# Altium integrated library Altium_WCAP-FTBP (rev22a).IntLib: 30 symbols
Pins are listed as number, name and electrical type; pins without a type are passive.

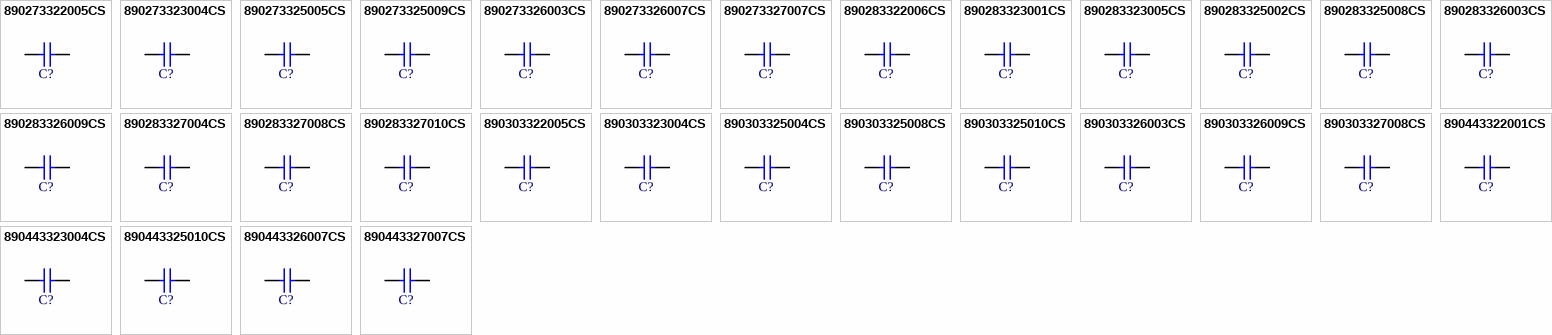
[diagram p0: symbols 890273322005CS to 890443327007CS]

## 890273322005CS
designator C?, comment 150nF  (value not drawn)
WCAP-FTBP Film Capacitor, THT, L10.5W5H11mm, 150nF, 250V; Manufacturer: Wurth Elektronik; Manufacturer Part Number: 890273322005CS; Capacitance Tolerance: +/-5%; Dissipation Factor @1kHz: 0.1%; Dissipation Factor @100kHz: 0.26%; Insulation Resistance: 30000MOhm; Pitch: 7.5mm; Rate of Voltage Rise: 340V/us; Technical Reference: MPPP075154J250DCPP45004; ComponentLink1Description: Manufacturer Link; ComponentLink1URL: https://www.we-online.com/redexpert/article/890273322005CS?ad; ComponentLink2Description: Datasheet; ComponentLink2URL: https://www.we-online.com/redexpert/spec/890273322005CS?ad; Category: Film Capacitors; Match Code: WCAP-FTBP; Mount: Through Hole; Operating Temperature Max: 105°C; Operating Temperature Min: -40°C; Packaging: Carton; Length: 10.5mm; Width: 5mm; Height: 11mm; Capacitance: 150nF; Dissipation Factor @10kHz: 0.1%; Rated Voltage (DC): 250V
footprint WCAP-FTBP_L10.5W5H11
pins: 1, 2

## 890273323004CS
designator C?, comment 220nF  (value not drawn)
WCAP-FTBP Film Capacitor, THT, L13W6H12mm, 220nF, 250V; Manufacturer: Wurth Elektronik; Manufacturer Part Number: 890273323004CS; Capacitance Tolerance: +/-5%; Dissipation Factor @1kHz: 0.1%; Dissipation Factor @100kHz: 0.4%; Insulation Resistance: 30000MOhm; Pitch: 10mm; Rate of Voltage Rise: 250V/us; Technical Reference: MPPP010224J250DCPP45004; ComponentLink1Description: Manufacturer Link; ComponentLink1URL: https://www.we-online.com/redexpert/article/890273323004CS?ad; ComponentLink2Description: Datasheet; ComponentLink2URL: https://www.we-online.com/redexpert/spec/890273323004CS?ad; Category: Film Capacitors; Match Code: WCAP-FTBP; Mount: Through Hole; Operating Temperature Max: 105°C; Operating Temperature Min: -40°C; Packaging: Carton; Length: 13mm; Width: 6mm; Height: 12mm; Capacitance: 220nF; Dissipation Factor @10kHz: 0.1%; Rated Voltage (DC): 250V
footprint WCAP-FTBP_L13W6H12
pins: 1, 2

## 890273325005CS
designator C?, comment 470nF  (value not drawn)
WCAP-FTBP Film Capacitor, THT, L18W5H11mm, 470nF, 250V; Manufacturer: Wurth Elektronik; Manufacturer Part Number: 890273325005CS; Capacitance Tolerance: +/-5%; Dissipation Factor @1kHz: 0.1%; Dissipation Factor @10kHz: 0.28%; Dissipation Factor @100kHz: 1.5%; Insulation Resistance: 10000Ohm x F; Pitch: 15mm; Rate of Voltage Rise: 59V/us; Technical Reference: MPPP015474J250DCPP45004; ComponentLink1Description: Manufacturer Link; ComponentLink1URL: https://www.we-online.com/redexpert/article/890273325005CS?ad; ComponentLink2Description: Datasheet; ComponentLink2URL: https://www.we-online.com/redexpert/spec/890273325005CS?ad; Category: Film Capacitors; Match Code: WCAP-FTBP; Mount: Through Hole; Operating Temperature Max: 105°C; Operating Temperature Min: -40°C; Packaging: Carton; Length: 18mm; Width: 5mm; Height: 11mm; Capacitance: 470nF; Rated Voltage (DC): 250V
footprint WCAP-FTBP_L18W5H11
pins: 1, 2

## 890273325009CS
designator C?, comment 1uF  (value not drawn)
WCAP-FTBP Film Capacitor, THT, L18W7H13mm, 1uF, 250V; Manufacturer: Wurth Elektronik; Manufacturer Part Number: 890273325009CS; Capacitance Tolerance: +/-5%; Dissipation Factor @1kHz: 0.1%; Dissipation Factor @10kHz: 0.28%; Dissipation Factor @100kHz: 1.5%; Insulation Resistance: 10000Ohm x F; Pitch: 15mm; Rate of Voltage Rise: 85V/us; Technical Reference: MPPP015105J250DCPP45004; ComponentLink1Description: Manufacturer Link; ComponentLink1URL: https://www.we-online.com/redexpert/article/890273325009CS?ad; ComponentLink2Description: Datasheet; ComponentLink2URL: https://www.we-online.com/redexpert/spec/890273325009CS?ad; Category: Film Capacitors; Match Code: WCAP-FTBP; Mount: Through Hole; Operating Temperature Max: 105°C; Operating Temperature Min: -40°C; Packaging: Carton; Length: 18mm; Width: 7mm; Height: 13mm; Capacitance: 1uF; Rated Voltage (DC): 250V
footprint WCAP-FTBP_L18W7H13
pins: 1, 2

## 890273326003CS
designator C?, comment 680nF  (value not drawn)
WCAP-FTBP Film Capacitor, THT, L26W6H15mm, 680nF, 250V; Manufacturer: Wurth Elektronik; Manufacturer Part Number: 890273326003CS; Capacitance Tolerance: +/-5%; Dissipation Factor @1kHz: 0.1%; Dissipation Factor @10kHz: 0.36%; Dissipation Factor @100kHz: 3.1%; Insulation Resistance: 10000Ohm x F; Pitch: 22.5mm; Rate of Voltage Rise: 60V/us; Technical Reference: MPPP225684J250DCPP45004; ComponentLink1Description: Manufacturer Link; ComponentLink1URL: https://www.we-online.com/redexpert/article/890273326003CS?ad; ComponentLink2Description: Datasheet; ComponentLink2URL: https://www.we-online.com/redexpert/spec/890273326003CS?ad; Category: Film Capacitors; Match Code: WCAP-FTBP; Mount: Through Hole; Operating Temperature Max: 105°C; Operating Temperature Min: -40°C; Packaging: Carton; Length: 26mm; Width: 6mm; Height: 15mm; Capacitance: 680nF; Rated Voltage (DC): 250V
footprint WCAP-FTBP_L26W6H15
pins: 1, 2

## 890273326007CS
designator C?, comment 1.5uF  (value not drawn)
WCAP-FTBP Film Capacitor, THT, L26W7H16.5mm, 1.5uF, 250V; Manufacturer: Wurth Elektronik; Manufacturer Part Number: 890273326007CS; Capacitance Tolerance: +/-5%; Dissipation Factor @1kHz: 0.1%; Dissipation Factor @10kHz: 0.4%; Dissipation Factor @100kHz: 3.4%; Insulation Resistance: 10000Ohm x F; Pitch: 22.5mm; Rate of Voltage Rise: 61V/us; Technical Reference: MPPP225155J250DCPP35004; ComponentLink1Description: Manufacturer Link; ComponentLink1URL: https://www.we-online.com/redexpert/article/890273326007CS?ad; ComponentLink2Description: Datasheet; ComponentLink2URL: https://www.we-online.com/redexpert/spec/890273326007CS?ad; Category: Film Capacitors; Match Code: WCAP-FTBP; Mount: Through Hole; Operating Temperature Max: 105°C; Operating Temperature Min: -40°C; Packaging: Carton; Length: 26mm; Width: 7mm; Height: 16.5mm; Capacitance: 1.5uF; Rated Voltage (DC): 250V
footprint WCAP-FTBP_L26W7H16.5
pins: 1, 2

## 890273327007CS
designator C?, comment 4.7uF  (value not drawn)
WCAP-FTBP Film Capacitor, THT, L31W14H23.5mm, 4.7uF, 250V; Manufacturer: Wurth Elektronik; Manufacturer Part Number: 890273327007CS; Capacitance Tolerance: +/-5%; Dissipation Factor @1kHz: 0.1%; Dissipation Factor @10kHz: 0.57%; Dissipation Factor @100kHz: 4.6%; Insulation Resistance: 10000Ohm x F; Pitch: 27.5mm; Rate of Voltage Rise: 64V/us; Technical Reference: MPPP275475J250DCPP35004; ComponentLink1Description: Manufacturer Link; ComponentLink1URL: https://www.we-online.com/redexpert/article/890273327007CS?ad; ComponentLink2Description: Datasheet; ComponentLink2URL: https://www.we-online.com/redexpert/spec/890273327007CS?ad; Category: Film Capacitors; Match Code: WCAP-FTBP; Mount: Through Hole; Operating Temperature Max: 105°C; Operating Temperature Min: -40°C; Packaging: Carton; Length: 31mm; Width: 14mm; Height: 23.5mm; Capacitance: 4.7uF; Rated Voltage (DC): 250V
footprint WCAP-FTBP_L31W14H23.5
pins: 1, 2

## 890283322006CS
designator C?, comment 68nF  (value not drawn)
WCAP-FTBP Film Capacitor, THT, L10.5W6H12mm, 68nF, 400V; Manufacturer: Wurth Elektronik; Manufacturer Part Number: 890283322006CS; Capacitance Tolerance: +/-5%; Dissipation Factor @1kHz: 0.1%; Dissipation Factor @100kHz: 0.15%; Insulation Resistance: 30000MOhm; Pitch: 7.5mm; Rate of Voltage Rise: 610V/us; Technical Reference: MPPP075683J400DCPP45004; ComponentLink1Description: Manufacturer Link; ComponentLink1URL: https://www.we-online.com/redexpert/article/890283322006CS?ad; ComponentLink2Description: Datasheet; ComponentLink2URL: https://www.we-online.com/redexpert/spec/890283322006CS?ad; Category: Film Capacitors; Match Code: WCAP-FTBP; Mount: Through Hole; Operating Temperature Max: 105°C; Operating Temperature Min: -40°C; Packaging: Carton; Length: 10.5mm; Width: 6mm; Height: 12mm; Capacitance: 68nF; Dissipation Factor @10kHz: 0.1%; Rated Voltage (DC): 400V
footprint WCAP-FTBP_L10.5W6H12
pins: 1, 2

## 890283323001CS
designator C?, comment 47nF  (value not drawn)
WCAP-FTBP Film Capacitor, THT, L13W5H11mm, 47nF, 400V; Manufacturer: Wurth Elektronik; Manufacturer Part Number: 890283323001CS; Capacitance Tolerance: +/-5%; Dissipation Factor @1kHz: 0.1%; Dissipation Factor @100kHz: 0.31%; Insulation Resistance: 30000MOhm; Pitch: 10mm; Rate of Voltage Rise: 340V/us; Technical Reference: MPPP010473J400DCPP55004; ComponentLink1Description: Manufacturer Link; ComponentLink1URL: https://www.we-online.com/redexpert/article/890283323001CS?ad; ComponentLink2Description: Datasheet; ComponentLink2URL: https://www.we-online.com/redexpert/spec/890283323001CS?ad; Category: Film Capacitors; Match Code: WCAP-FTBP; Mount: Through Hole; Operating Temperature Max: 105°C; Operating Temperature Min: -40°C; Packaging: Carton; Length: 13mm; Width: 5mm; Height: 11mm; Capacitance: 47nF; Dissipation Factor @10kHz: 0.1%; Rated Voltage (DC): 400V
footprint WCAP-FTBP_L13W5H11
pins: 1, 2

## 890283323005CS
designator C?, comment 100nF  (value not drawn)
WCAP-FTBP Film Capacitor, THT, L13W5.5H11mm, 100nF, 400V; Manufacturer: Wurth Elektronik; Manufacturer Part Number: 890283323005CS; Capacitance Tolerance: +/-5%; Dissipation Factor @1kHz: 0.1%; Dissipation Factor @100kHz: 0.35%; Insulation Resistance: 30000MOhm; Pitch: 10mm; Rate of Voltage Rise: 300V/us; Technical Reference: MPPP010104J400DCPP55004; ComponentLink1Description: Manufacturer Link; ComponentLink1URL: https://www.we-online.com/redexpert/article/890283323005CS?ad; ComponentLink2Description: Datasheet; ComponentLink2URL: https://www.we-online.com/redexpert/spec/890283323005CS?ad; Category: Film Capacitors; Match Code: WCAP-FTBP; Mount: Through Hole; Operating Temperature Max: 105°C; Operating Temperature Min: -40°C; Packaging: Carton; Length: 13mm; Width: 5.5mm; Height: 11mm; Capacitance: 100nF; Dissipation Factor @10kHz: 0.1%; Rated Voltage (DC): 400V
footprint WCAP-FTBP_L13W5.5H11
pins: 1, 2

## 890283325002CS
designator C?, comment 100nF  (value not drawn)
WCAP-FTBP Film Capacitor, THT, L18W5H11mm, 100nF, 400V; Manufacturer: Wurth Elektronik; Manufacturer Part Number: 890283325002CS; Capacitance Tolerance: +/-5%; Dissipation Factor @1kHz: 0.1%; Dissipation Factor @10kHz: 0.15%; Dissipation Factor @100kHz: 0.8%; Insulation Resistance: 30000MOhm; Pitch: 15mm; Rate of Voltage Rise: 120V/us; Technical Reference: MPPP015104J400DCPP45004; ComponentLink1Description: Manufacturer Link; ComponentLink1URL: https://www.we-online.com/redexpert/article/890283325002CS?ad; ComponentLink2Description: Datasheet; ComponentLink2URL: https://www.we-online.com/redexpert/spec/890283325002CS?ad; Category: Film Capacitors; Match Code: WCAP-FTBP; Mount: Through Hole; Operating Temperature Max: 105°C; Operating Temperature Min: -40°C; Packaging: Carton; Length: 18mm; Width: 5mm; Height: 11mm; Capacitance: 100nF; Rated Voltage (DC): 400V
footprint WCAP-FTBP_L18W5H11
pins: 1, 2

## 890283325008CS
designator C?, comment 330nF  (value not drawn)
WCAP-FTBP Film Capacitor, THT, L18W7H13mm, 330nF, 400V; Manufacturer: Wurth Elektronik; Manufacturer Part Number: 890283325008CS; Capacitance Tolerance: +/-5%; Dissipation Factor @1kHz: 0.1%; Dissipation Factor @10kHz: 0.15%; Dissipation Factor @100kHz: 0.92%; Insulation Resistance: 30000MOhm; Pitch: 15mm; Rate of Voltage Rise: 140V/us; Technical Reference: MPPP015334J400DCPP45004; ComponentLink1Description: Manufacturer Link; ComponentLink1URL: https://www.we-online.com/redexpert/article/890283325008CS?ad; ComponentLink2Description: Datasheet; ComponentLink2URL: https://www.we-online.com/redexpert/spec/890283325008CS?ad; Category: Film Capacitors; Match Code: WCAP-FTBP; Mount: Through Hole; Operating Temperature Max: 105°C; Operating Temperature Min: -40°C; Packaging: Carton; Length: 18mm; Width: 7mm; Height: 13mm; Capacitance: 330nF; Rated Voltage (DC): 400V
footprint WCAP-FTBP_L18W7H13
pins: 1, 2

## 890283326003CS
designator C?, comment 330nF  (value not drawn)
WCAP-FTBP Film Capacitor, THT, L26W6H15mm, 330nF, 400V; Manufacturer: Wurth Elektronik; Manufacturer Part Number: 890283326003CS; Capacitance Tolerance: +/-5%; Dissipation Factor @1kHz: 0.1%; Dissipation Factor @10kHz: 0.3%; Dissipation Factor @100kHz: 1.9%; Insulation Resistance: 30000MOhm; Pitch: 22.5mm; Rate of Voltage Rise: 97V/us; Technical Reference: MPPP225334J400DCPP45004; ComponentLink1Description: Manufacturer Link; ComponentLink1URL: https://www.we-online.com/redexpert/article/890283326003CS?ad; ComponentLink2Description: Datasheet; ComponentLink2URL: https://www.we-online.com/redexpert/spec/890283326003CS?ad; Category: Film Capacitors; Match Code: WCAP-FTBP; Mount: Through Hole; Operating Temperature Max: 105°C; Operating Temperature Min: -40°C; Packaging: Carton; Length: 26mm; Width: 6mm; Height: 15mm; Capacitance: 330nF; Rated Voltage (DC): 400V
footprint WCAP-FTBP_L26W6H15
pins: 1, 2

## 890283326009CS
designator C?, comment 1uF  (value not drawn)
WCAP-FTBP Film Capacitor, THT, L26W8.5H17mm, 1uF, 400V; Manufacturer: Wurth Elektronik; Manufacturer Part Number: 890283326009CS; Capacitance Tolerance: +/-5%; Dissipation Factor @1kHz: 0.1%; Dissipation Factor @10kHz: 0.32%; Dissipation Factor @100kHz: 2.2%; Insulation Resistance: 10000Ohm x F; Pitch: 22.5mm; Rate of Voltage Rise: 95V/us; Technical Reference: MPPP225105J400DCPP35004; ComponentLink1Description: Manufacturer Link; ComponentLink1URL: https://www.we-online.com/redexpert/article/890283326009CS?ad; ComponentLink2Description: Datasheet; ComponentLink2URL: https://www.we-online.com/redexpert/spec/890283326009CS?ad; Category: Film Capacitors; Match Code: WCAP-FTBP; Mount: Through Hole; Operating Temperature Max: 105°C; Operating Temperature Min: -40°C; Packaging: Carton; Length: 26mm; Width: 8.5mm; Height: 17mm; Capacitance: 1uF; Rated Voltage (DC): 400V
footprint WCAP-FTBP_L26W8.5H17
pins: 1, 2

## 890283327004CS
designator C?, comment 1uF  (value not drawn)
WCAP-FTBP Film Capacitor, THT, L31W10H19mm, 1uF, 400V; Manufacturer: Wurth Elektronik; Manufacturer Part Number: 890283327004CS; Capacitance Tolerance: +/-5%; Dissipation Factor @1kHz: 0.1%; Dissipation Factor @10kHz: 0.39%; Dissipation Factor @100kHz: 3.3%; Insulation Resistance: 10000Ohm x F; Pitch: 27.5mm; Rate of Voltage Rise: 90V/us; Technical Reference: MPPP275105J400DCPP35004; ComponentLink1Description: Manufacturer Link; ComponentLink1URL: https://www.we-online.com/redexpert/article/890283327004CS?ad; ComponentLink2Description: Datasheet; ComponentLink2URL: https://www.we-online.com/redexpert/spec/890283327004CS?ad; Category: Film Capacitors; Match Code: WCAP-FTBP; Mount: Through Hole; Operating Temperature Max: 105°C; Operating Temperature Min: -40°C; Packaging: Carton; Length: 31mm; Width: 10mm; Height: 19mm; Capacitance: 1uF; Rated Voltage (DC): 400V
footprint WCAP-FTBP_L31W10H19
pins: 1, 2

## 890283327008CS
designator C?, comment 2.2uF  (value not drawn)
WCAP-FTBP Film Capacitor, THT, L31W15H24.5mm, 2.2uF, 400V; Manufacturer: Wurth Elektronik; Manufacturer Part Number: 890283327008CS; Capacitance Tolerance: +/-5%; Dissipation Factor @1kHz: 0.1%; Dissipation Factor @10kHz: 0.4%; Dissipation Factor @100kHz: 3.4%; Insulation Resistance: 10000Ohm x F; Pitch: 27.5mm; Rate of Voltage Rise: 98V/us; Technical Reference: MPPP275225J400DCPP25004; ComponentLink1Description: Manufacturer Link; ComponentLink1URL: https://www.we-online.com/redexpert/article/890283327008CS?ad; ComponentLink2Description: Datasheet; ComponentLink2URL: https://www.we-online.com/redexpert/spec/890283327008CS?ad; Category: Film Capacitors; Match Code: WCAP-FTBP; Mount: Through Hole; Operating Temperature Max: 105°C; Operating Temperature Min: -40°C; Packaging: Carton; Length: 31mm; Width: 15mm; Height: 24.5mm; Capacitance: 2.2uF; Rated Voltage (DC): 400V
footprint WCAP-FTBP_L31W15H24.5
pins: 1, 2

## 890283327010CS
designator C?, comment 3.3uF  (value not drawn)
WCAP-FTBP Film Capacitor, THT, L31W18H26mm, 3.3uF, 400V; Manufacturer: Wurth Elektronik; Manufacturer Part Number: 890283327010CS; Capacitance Tolerance: +/-5%; Dissipation Factor @1kHz: 0.1%; Dissipation Factor @10kHz: 0.4%; Dissipation Factor @100kHz: 3.4%; Insulation Resistance: 10000Ohm x F; Pitch: 27.5mm; Rate of Voltage Rise: 100V/us; Technical Reference: MPPP275335J400DCPP25004; ComponentLink1Description: Manufacturer Link; ComponentLink1URL: https://www.we-online.com/redexpert/article/890283327010CS?ad; ComponentLink2Description: Datasheet; ComponentLink2URL: https://www.we-online.com/redexpert/spec/890283327010CS?ad; Category: Film Capacitors; Match Code: WCAP-FTBP; Mount: Through Hole; Operating Temperature Max: 105°C; Operating Temperature Min: -40°C; Packaging: Carton; Length: 31mm; Width: 18mm; Height: 26mm; Capacitance: 3.3uF; Rated Voltage (DC): 400V
footprint WCAP-FTBP_L31W18H26
pins: 1, 2

## 890303322005CS
designator C?, comment 33nF  (value not drawn)
WCAP-FTBP Film Capacitor, THT, L10.5W5H11mm, 33nF, 630V; Manufacturer: Wurth Elektronik; Manufacturer Part Number: 890303322005CS; Capacitance Tolerance: +/-5%; Dissipation Factor @1kHz: 0.1%; Dissipation Factor @100kHz: 0.15%; Insulation Resistance: 30000MOhm; Pitch: 7.5mm; Rate of Voltage Rise: 700V/us; Technical Reference: MPPP075333J630DCPP45004; ComponentLink1Description: Manufacturer Link; ComponentLink1URL: https://www.we-online.com/redexpert/article/890303322005CS?ad; ComponentLink2Description: Datasheet; ComponentLink2URL: https://www.we-online.com/redexpert/spec/890303322005CS?ad; Category: Film Capacitors; Match Code: WCAP-FTBP; Mount: Through Hole; Operating Temperature Max: 105°C; Operating Temperature Min: -40°C; Packaging: Carton; Length: 10.5mm; Width: 5mm; Height: 11mm; Capacitance: 33nF; Dissipation Factor @10kHz: 0.1%; Rated Voltage (DC): 630V
footprint WCAP-FTBP_L10.5W5H11
pins: 1, 2

## 890303323004CS
designator C?, comment 47nF  (value not drawn)
WCAP-FTBP Film Capacitor, THT, L13W5.5H11mm, 47nF, 630V; Manufacturer: Wurth Elektronik; Manufacturer Part Number: 890303323004CS; Capacitance Tolerance: +/-5%; Dissipation Factor @1kHz: 0.1%; Dissipation Factor @10kHz: 10%; Dissipation Factor @100kHz: 0.29%; Insulation Resistance: 30000MOhm; Pitch: 10mm; Rate of Voltage Rise: 430V/us; Technical Reference: MPPP010473J630DCPP55004; ComponentLink1Description: Manufacturer Link; ComponentLink1URL: https://www.we-online.com/redexpert/article/890303323004CS?ad; ComponentLink2Description: Datasheet; ComponentLink2URL: https://www.we-online.com/redexpert/spec/890303323004CS?ad; Category: Film Capacitors; Match Code: WCAP-FTBP; Mount: Through Hole; Operating Temperature Max: 105°C; Operating Temperature Min: -40°C; Packaging: Carton; Length: 13mm; Width: 5.5mm; Height: 11mm; Capacitance: 47nF; Rated Voltage (DC): 630V
footprint WCAP-FTBP_L13W5.5H11
pins: 1, 2

## 890303325004CS
designator C?, comment 68nF  (value not drawn)
WCAP-FTBP Film Capacitor, THT, L18W6H12mm, 68nF, 630V; Manufacturer: Wurth Elektronik; Manufacturer Part Number: 890303325004CS; Capacitance Tolerance: +/-5%; Dissipation Factor @1kHz: 0.1%; Dissipation Factor @10kHz: 0.15%; Dissipation Factor @100kHz: 0.57%; Insulation Resistance: 30000MOhm; Pitch: 15mm; Rate of Voltage Rise: 240V/us; Technical Reference: MPPP015683J630DCPP45004; ComponentLink1Description: Manufacturer Link; ComponentLink1URL: https://www.we-online.com/redexpert/article/890303325004CS?ad; ComponentLink2Description: Datasheet; ComponentLink2URL: https://www.we-online.com/redexpert/spec/890303325004CS?ad; Category: Film Capacitors; Match Code: WCAP-FTBP; Mount: Through Hole; Operating Temperature Max: 105°C; Operating Temperature Min: -40°C; Packaging: Carton; Length: 18mm; Width: 6mm; Height: 12mm; Capacitance: 68nF; Rated Voltage (DC): 630V
footprint WCAP-FTBP_L18W6H12
pins: 1, 2

## 890303325008CS
designator C?, comment 150nF  (value not drawn)
WCAP-FTBP Film Capacitor, THT, L18W7H13mm, 150nF, 630V; Manufacturer: Wurth Elektronik; Manufacturer Part Number: 890303325008CS; Capacitance Tolerance: +/-5%; Dissipation Factor @1kHz: 0.1%; Dissipation Factor @10kHz: 0.15%; Dissipation Factor @100kHz: 0.68%; Insulation Resistance: 30000MOhm; Pitch: 15mm; Rate of Voltage Rise: 200V/us; Technical Reference: MPPP015154J630DCPP45004; ComponentLink1Description: Manufacturer Link; ComponentLink1URL: https://www.we-online.com/redexpert/article/890303325008CS?ad; ComponentLink2Description: Datasheet; ComponentLink2URL: https://www.we-online.com/redexpert/spec/890303325008CS?ad; Category: Film Capacitors; Match Code: WCAP-FTBP; Mount: Through Hole; Operating Temperature Max: 105°C; Operating Temperature Min: -40°C; Packaging: Carton; Length: 18mm; Width: 7mm; Height: 13mm; Capacitance: 150nF; Rated Voltage (DC): 630V
footprint WCAP-FTBP_L18W7H13
pins: 1, 2

## 890303325010CS
designator C?, comment 220nF  (value not drawn)
WCAP-FTBP Film Capacitor, THT, L18W8H14mm, 220nF, 630V; Manufacturer: Wurth Elektronik; Manufacturer Part Number: 890303325010CS; Capacitance Tolerance: +/-5%; Dissipation Factor @1kHz: 0.1%; Dissipation Factor @10kHz: 0.15%; Dissipation Factor @100kHz: 0.68%; Insulation Resistance: 30000MOhm; Pitch: 15mm; Rate of Voltage Rise: 220V/us; Technical Reference: MPPP015224J630DCPP45004; ComponentLink1Description: Manufacturer Link; ComponentLink1URL: https://www.we-online.com/redexpert/article/890303325010CS?ad; ComponentLink2Description: Datasheet; ComponentLink2URL: https://www.we-online.com/redexpert/spec/890303325010CS?ad; Category: Film Capacitors; Match Code: WCAP-FTBP; Mount: Through Hole; Operating Temperature Max: 105°C; Operating Temperature Min: -40°C; Packaging: Carton; Length: 18mm; Width: 8mm; Height: 14mm; Capacitance: 220nF; Rated Voltage (DC): 630V
footprint WCAP-FTBP_L18W8H14
pins: 1, 2

## 890303326003CS
designator C?, comment 150nF  (value not drawn)
WCAP-FTBP Film Capacitor, THT, L26W6H15mm, 150nF, 630V; Manufacturer: Wurth Elektronik; Manufacturer Part Number: 890303326003CS; Capacitance Tolerance: +/-5%; Dissipation Factor @1kHz: 0.1%; Dissipation Factor @10kHz: 0.26%; Dissipation Factor @100kHz: 1.3%; Insulation Resistance: 30000MOhm; Pitch: 22.5mm; Rate of Voltage Rise: 120V/us; Technical Reference: MPPP225154J630DCPP45004; ComponentLink1Description: Manufacturer Link; ComponentLink1URL: https://www.we-online.com/redexpert/article/890303326003CS?ad; ComponentLink2Description: Datasheet; ComponentLink2URL: https://www.we-online.com/redexpert/spec/890303326003CS?ad; Category: Film Capacitors; Match Code: WCAP-FTBP; Mount: Through Hole; Operating Temperature Max: 105°C; Operating Temperature Min: -40°C; Packaging: Carton; Length: 26mm; Width: 6mm; Height: 15mm; Capacitance: 150nF; Rated Voltage (DC): 630V
footprint WCAP-FTBP_L26W6H15
pins: 1, 2

## 890303326009CS
designator C?, comment 470nF  (value not drawn)
WCAP-FTBP Film Capacitor, THT, L26W9H18mm, 470nF, 630V; Manufacturer: Wurth Elektronik; Manufacturer Part Number: 890303326009CS; Capacitance Tolerance: +/-5%; Dissipation Factor @1kHz: 0.1%; Dissipation Factor @10kHz: 0.28%; Dissipation Factor @100kHz: 1.5%; Insulation Resistance: 10000Ohm x F; Pitch: 22.5mm; Rate of Voltage Rise: 130V/us; Technical Reference: MPPP225474J630DCPP35004; ComponentLink1Description: Manufacturer Link; ComponentLink1URL: https://www.we-online.com/redexpert/article/890303326009CS?ad; ComponentLink2Description: Datasheet; ComponentLink2URL: https://www.we-online.com/redexpert/spec/890303326009CS?ad; Category: Film Capacitors; Match Code: WCAP-FTBP; Mount: Through Hole; Operating Temperature Max: 105°C; Operating Temperature Min: -40°C; Packaging: Carton; Length: 26mm; Width: 9mm; Height: 18mm; Capacitance: 470nF; Rated Voltage (DC): 630V
footprint WCAP-FTBP_L26W9H18
pins: 1, 2

## 890303327008CS
designator C?, comment 1.5uF  (value not drawn)
WCAP-FTBP Film Capacitor, THT, L31W16H25.5mm, 1.5uF, 630V; Manufacturer: Wurth Elektronik; Manufacturer Part Number: 890303327008CS; Capacitance Tolerance: +/-5%; Dissipation Factor @1kHz: 0.1%; Dissipation Factor @10kHz: 0.34%; Dissipation Factor @100kHz: 2.3%; Insulation Resistance: 10000Ohm x F; Pitch: 27.5mm; Rate of Voltage Rise: 130V/us; Technical Reference: MPPP275155J630DCPP25004; ComponentLink1Description: Manufacturer Link; ComponentLink1URL: https://www.we-online.com/redexpert/article/890303327008CS?ad; ComponentLink2Description: Datasheet; ComponentLink2URL: https://www.we-online.com/redexpert/spec/890303327008CS?ad; Category: Film Capacitors; Match Code: WCAP-FTBP; Mount: Through Hole; Operating Temperature Max: 105°C; Operating Temperature Min: -40°C; Packaging: Carton; Length: 31mm; Width: 16mm; Height: 25.5mm; Capacitance: 1.5uF; Rated Voltage (DC): 630V
footprint WCAP-FTBP_L31W16H25.5
pins: 1, 2

## 890443322001CS
designator C?, comment 100nF  (value not drawn)
WCAP-FTBP Film Capacitor, THT, L10.5W5H11mm, 100nF, 160V; Manufacturer: Wurth Elektronik; Manufacturer Part Number: 890443322001CS; Capacitance Tolerance: +/-5%; Dissipation Factor @1kHz: 0.1%; Dissipation Factor @100kHz: 0.26%; Insulation Resistance: 30000MOhm; Pitch: 7.5mm; Rate of Voltage Rise: 300V/us; Technical Reference: MPPP075104J160DCPP45004; ComponentLink1Description: Manufacturer Link; ComponentLink1URL: https://www.we-online.com/redexpert/article/890443322001CS?ad; ComponentLink2Description: Datasheet; ComponentLink2URL: https://www.we-online.com/redexpert/spec/890443322001CS?ad; Category: Film Capacitors; Match Code: WCAP-FTBP; Mount: Through Hole; Operating Temperature Max: 105°C; Operating Temperature Min: -40°C; Packaging: Carton; Length: 10.5mm; Width: 5mm; Height: 11mm; Capacitance: 100nF; Dissipation Factor @10kHz: 0.1%; Rated Voltage (DC): 160V
footprint WCAP-FTBP_L10.5W5H11
pins: 1, 2

## 890443323004CS
designator C?, comment 330nF  (value not drawn)
WCAP-FTBP Film Capacitor, THT, L13W6H12mm, 330nF, 160V; Manufacturer: Wurth Elektronik; Manufacturer Part Number: 890443323004CS; Capacitance Tolerance: +/-5%; Dissipation Factor @1kHz: 0.1%; Dissipation Factor @10kHz: 0.15%; Dissipation Factor @100kHz: 0.54%; Insulation Resistance: 30000MOhm; Pitch: 10mm; Rate of Voltage Rise: 180V/us; Technical Reference: MPPP010334J160DCPP45004; ComponentLink1Description: Manufacturer Link; ComponentLink1URL: https://www.we-online.com/redexpert/article/890443323004CS?ad; ComponentLink2Description: Datasheet; ComponentLink2URL: https://www.we-online.com/redexpert/spec/890443323004CS?ad; Category: Film Capacitors; Match Code: WCAP-FTBP; Mount: Through Hole; Operating Temperature Max: 105°C; Operating Temperature Min: -40°C; Packaging: Carton; Length: 13mm; Width: 6mm; Height: 12mm; Capacitance: 330nF; Rated Voltage (DC): 160V
footprint WCAP-FTBP_L13W6H12
pins: 1, 2

## 890443325010CS
designator C?, comment 2.2uF  (value not drawn)
WCAP-FTBP Film Capacitor, THT, L18W10H16.5mm, 2.2uF, 160V; Manufacturer: Wurth Elektronik; Manufacturer Part Number: 890443325010CS; Capacitance Tolerance: +/-5%; Dissipation Factor @1kHz: 0.1%; Dissipation Factor @10kHz: 0.28%; Dissipation Factor @100kHz: 1.6%; Insulation Resistance: 10000Ohm x F; Pitch: 15mm; Rate of Voltage Rise: 98V/us; Technical Reference: MPPP015225J160DCPP45004; ComponentLink1Description: Manufacturer Link; ComponentLink1URL: https://www.we-online.com/redexpert/article/890443325010CS?ad; ComponentLink2Description: Datasheet; ComponentLink2URL: https://www.we-online.com/redexpert/spec/890443325010CS?ad; Category: Film Capacitors; Match Code: WCAP-FTBP; Mount: Through Hole; Operating Temperature Max: 105°C; Operating Temperature Min: -40°C; Packaging: Carton; Length: 18mm; Width: 10mm; Height: 16.5mm; Capacitance: 2.2uF; Rated Voltage (DC): 160V
footprint WCAP-FTBP_L18W10H16.5
pins: 1, 2

## 890443326007CS
designator C?, comment 3.3uF  (value not drawn)
WCAP-FTBP Film Capacitor, THT, L26W9H18mm, 3.3uF, 160V; Manufacturer: Wurth Elektronik; Manufacturer Part Number: 890443326007CS; Capacitance Tolerance: +/-5%; Dissipation Factor @1kHz: 0.1%; Dissipation Factor @10kHz: 0.44%; Dissipation Factor @100kHz: 3.9%; Insulation Resistance: 10000Ohm x F; Pitch: 22.5mm; Rate of Voltage Rise: 57V/us; Technical Reference: MPPP225335J160DCPP35004; ComponentLink1Description: Manufacturer Link; ComponentLink1URL: https://www.we-online.com/redexpert/article/890443326007CS?ad; ComponentLink2Description: Datasheet; ComponentLink2URL: https://www.we-online.com/redexpert/spec/890443326007CS?ad; Category: Film Capacitors; Match Code: WCAP-FTBP; Mount: Through Hole; Operating Temperature Max: 105°C; Operating Temperature Min: -40°C; Packaging: Carton; Length: 26mm; Width: 9mm; Height: 18mm; Capacitance: 3.3uF; Rated Voltage (DC): 160V
footprint WCAP-FTBP_L26W9H18
pins: 1, 2

## 890443327007CS
designator C?, comment 6.8uF  (value not drawn)
WCAP-FTBP Film Capacitor, THT, L31W13H22mm, 6.8uF, 160V; Manufacturer: Wurth Elektronik; Manufacturer Part Number: 890443327007CS; Capacitance Tolerance: +/-5%; Dissipation Factor @1kHz: 0.1%; Dissipation Factor @10kHz: 0.75%; Dissipation Factor @100kHz: 5.9%; Insulation Resistance: 10000Ohm x F; Pitch: 27.5mm; Rate of Voltage Rise: 46V/us; Technical Reference: MPPP275685J160DCPP35004; ComponentLink1Description: Manufacturer Link; ComponentLink1URL: https://www.we-online.com/redexpert/article/890443327007CS?ad; ComponentLink2Description: Datasheet; ComponentLink2URL: https://www.we-online.com/redexpert/spec/890443327007CS?ad; Category: Film Capacitors; Match Code: WCAP-FTBP; Mount: Through Hole; Operating Temperature Max: 105°C; Operating Temperature Min: -40°C; Packaging: Carton; Length: 31mm; Width: 13mm; Height: 22mm; Capacitance: 6.8uF; Rated Voltage (DC): 160V
footprint WCAP-FTBP_L31W13H22
pins: 1, 2